# EAGLE library part 615008160121 (library Eagle_WR-MJ (rev23b))
WR-MJ Modular Jack THT Horizontal Shielded 8P8C Tab Up MATERIAL PROPERTIES Insulator Material PA9T Insulator Flammability Rating UL94 V-0 Insulator Color Black Contact Material Copper Alloy Contact Plating 6u' on contact plating Contact Type Stamped GENERAL INFORMATION Operating Temperature -40 up to +85 °C ELECTRICAL PROPERTIES Working Voltage 125 V (AC) Contact Resistance 35 mΩ RISO 1000 MΩ PACKAGING PROPERTIES Packaging Tray <https://katalog.we-online.com/media/images/v2/o161615v209%20Family_WR-MJTH_615008160121.jpg> Details see: https://katalog.we-online.com/en/em/MJ_THT_HORIZONTAL_SHIELDED_8P8C_TAB_UP Updated by Yingchun,Shan 2020-01-03 2020(C) Wurth Elektronik
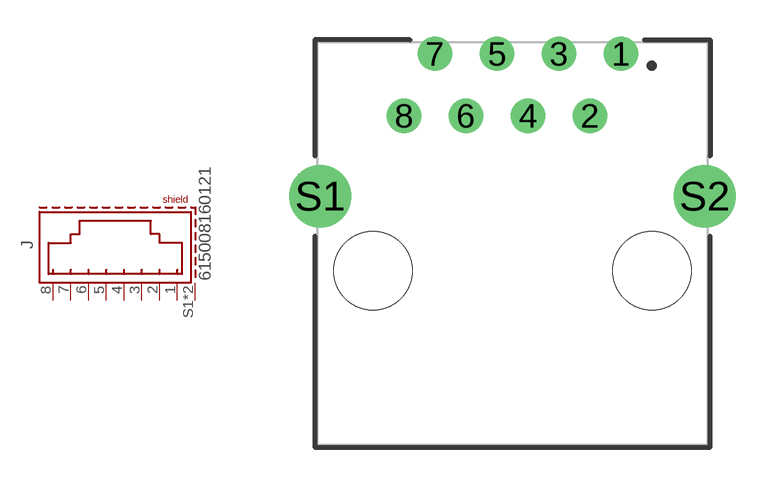
[diagram p7: symbol with the pads of 615008160121; footprint 615008160121]

Designator prefix J

## 615008160121 (DATASHEET-URL: https://www.we-online.com/redexpert/spec/615008160121?ae; MOUNT: THT; PART-NUMBER: 615008160121; TYPE: Horizontal; VALUE: 615008160121; XPXC: 8P8C)  [615008160121]
1  1  pas
2  2  pas
3  3  pas
4  4  pas
5  5  pas
6  6  pas
7  7  pas
8  8  pas
S1  SHIELD  pas
S2  SHIELD  pas

## Footprint 615008160121 (pad centres in mm)
WR-MJ Modular Jack THT Horizontal Shielded 8P8C Tab Up
drill 0.9: 1 4.445,7.78; 2 3.175,5.24; 3 1.905,7.78; 4 0.635,5.24; 5 -0.635,7.78; 6 -1.905,5.24; 7 -3.175,7.78; 8 -4.445,5.24
drill 1.7: S1 -7.875,1.94; S2 7.875,1.94
hole 3.2 at -5.715,-1.11
hole 3.2 at 5.715,-1.11